# EAGLE library part RTL8019AS (library F030NG)
Full-Duplex Ethernet Controller with Plug and Play Function
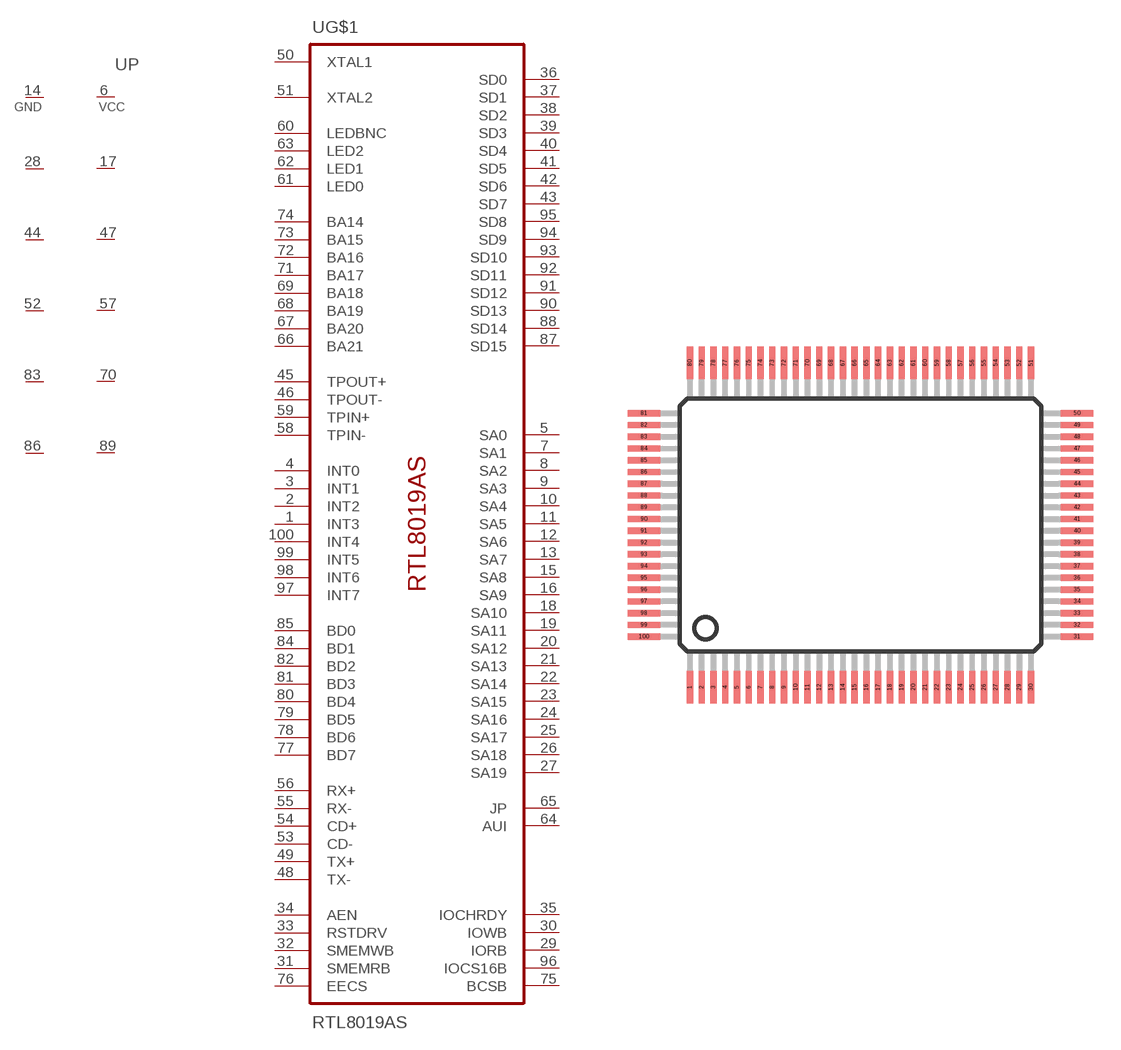
[diagram p54: symbol with the pads of PQFP100; footprint PQFP100]

Designator prefix U; gates G$1=RTL8019AS P=6VCC_6GND

## RTL8019AS  [PQFP100]
1  G$1:INT3  out
2  G$1:INT2  out
3  G$1:INT1  out
4  G$1:INT0  out
5  G$1:SA0  in
6  P:VCC  pwr
7  G$1:SA1  in
8  G$1:SA2  in
9  G$1:SA3  in
10  G$1:SA4  in
11  G$1:SA5  in
12  G$1:SA6  in
13  G$1:SA7  in
14  P:GND  pwr
15  G$1:SA8  in
16  G$1:SA9  in
17  P:VCC  pwr
18  G$1:SA10  in
19  G$1:SA11  in
20  G$1:SA12  in
21  G$1:SA13  in
22  G$1:SA14  in
23  G$1:SA15  in
24  G$1:SA16  in
25  G$1:SA17  in
26  G$1:SA18  in
27  G$1:SA19  in
28  P:GND  pwr
29  G$1:IORB  in
30  G$1:IOWB  in
31  G$1:SMEMRB  in
32  G$1:SMEMWB  in
33  G$1:RSTDRV  in
34  G$1:AEN  in
35  G$1:IOCHRDY  out
36  G$1:SD0
37  G$1:SD1
38  G$1:SD2
39  G$1:SD3
40  G$1:SD4
41  G$1:SD5
42  G$1:SD6
43  G$1:SD7
44  P:GND  pwr
45  G$1:TPOUT+  out
46  G$1:TPOUT-  out
47  P:VCC  pwr
48  G$1:TX-  out
49  G$1:TX+  out
50  G$1:XTAL1  in
51  G$1:XTAL2  out
52  P:GND  pwr
53  G$1:CD-  in
54  G$1:CD+  in
55  G$1:RX-  in
56  G$1:RX+  in
57  P:VCC  pwr
58  G$1:TPIN-
59  G$1:TPIN+  in
60  G$1:LEDBNC  out
61  G$1:LED0  out
62  G$1:LED1  out
63  G$1:LED2  out
64  G$1:AUI  in
65  G$1:JP
66  G$1:BA21  out
67  G$1:BA20  out
68  G$1:BA19  out
69  G$1:BA18  out
70  P:VCC  pwr
71  G$1:BA17  out
72  G$1:BA16  out
73  G$1:BA15
74  G$1:BA14  out
75  G$1:BCSB  out
76  G$1:EECS  out
77  G$1:BD7
78  G$1:BD6
79  G$1:BD5
80  G$1:BD4
81  G$1:BD3
82  G$1:BD2
83  P:GND  pwr
84  G$1:BD1
85  G$1:BD0
86  P:GND  pwr
87  G$1:SD15
88  G$1:SD14
89  P:VCC  pwr
90  G$1:SD13
91  G$1:SD12
92  G$1:SD11
93  G$1:SD10
94  G$1:SD9
95  G$1:SD8
96  G$1:IOCS16B  out
97  G$1:INT7  out
98  G$1:INT6  out
99  G$1:INT5  out
100  G$1:INT4  out

## Footprint PQFP100 (pad centres in mm)
smd 0.35 x 1.8: 1 -9.425,-8.965; 2 -8.775,-8.965; 3 -8.125,-8.965; 4 -7.475,-8.965; 5 -6.825,-8.965; 6 -6.175,-8.965; 7 -5.525,-8.965; 8 -4.875,-8.965; 9 -4.225,-8.965; 10 -3.575,-8.965; 11 -2.925,-8.965; 12 -2.275,-8.965; 13 -1.625,-8.965; 14 -0.975,-8.965; 15 -0.325,-8.965; 16 0.325,-8.965; 17 0.975,-8.965; 18 1.625,-8.965; 19 2.275,-8.965; 20 2.925,-8.965; 21 3.575,-8.965; 22 4.225,-8.965; 23 4.875,-8.965; 24 5.525,-8.965; 25 6.175,-8.965; 26 6.825,-8.965; 27 7.475,-8.965; 28 8.125,-8.965; 29 8.775,-8.965; 30 9.425,-8.965; 51 9.425,8.965; 52 8.775,8.965; 53 8.125,8.965; 54 7.475,8.965; 55 6.825,8.965; 56 6.175,8.965; 57 5.525,8.965; 58 4.875,8.965; 59 4.225,8.965; 60 3.575,8.965; 61 2.925,8.965; 62 2.275,8.965; 63 1.625,8.965; 64 0.975,8.965; 65 0.325,8.965; 66 -0.325,8.965; 67 -0.975,8.965; 68 -1.625,8.965; 69 -2.275,8.965; 70 -2.925,8.965; 71 -3.575,8.965; 72 -4.225,8.965; 73 -4.875,8.965; 74 -5.525,8.965; 75 -6.175,8.965; 76 -6.825,8.965; 77 -7.475,8.965; 78 -8.125,8.965; 79 -8.775,8.965; 80 -9.425,8.965
smd 1.8 x 0.35: 31 11.965,-6.175; 32 11.965,-5.525; 33 11.965,-4.875; 34 11.965,-4.225; 35 11.965,-3.575; 36 11.965,-2.925; 37 11.965,-2.275; 38 11.965,-1.625; 39 11.965,-0.975; 40 11.965,-0.325; 41 11.965,0.325; 42 11.965,0.975; 43 11.965,1.625; 44 11.965,2.275; 45 11.965,2.925; 46 11.965,3.575; 47 11.965,4.225; 48 11.965,4.875; 49 11.965,5.525; 50 11.965,6.175; 81 -11.965,6.175; 82 -11.965,5.525; 83 -11.965,4.875; 84 -11.965,4.225; 85 -11.965,3.575; 86 -11.965,2.925; 87 -11.965,2.275; 88 -11.965,1.625; 89 -11.965,0.975; 90 -11.965,0.325; 91 -11.965,-0.325; 92 -11.965,-0.975; 93 -11.965,-1.625; 94 -11.965,-2.275; 95 -11.965,-2.925; 96 -11.965,-3.575; 97 -11.965,-4.225; 98 -11.965,-4.875; 99 -11.965,-5.525; 100 -11.965,-6.175